# Altium schematic symbol library Connectors.SchLib: 71 symbols
Pins are listed as number, name and electrical type; pins without a type are passive.

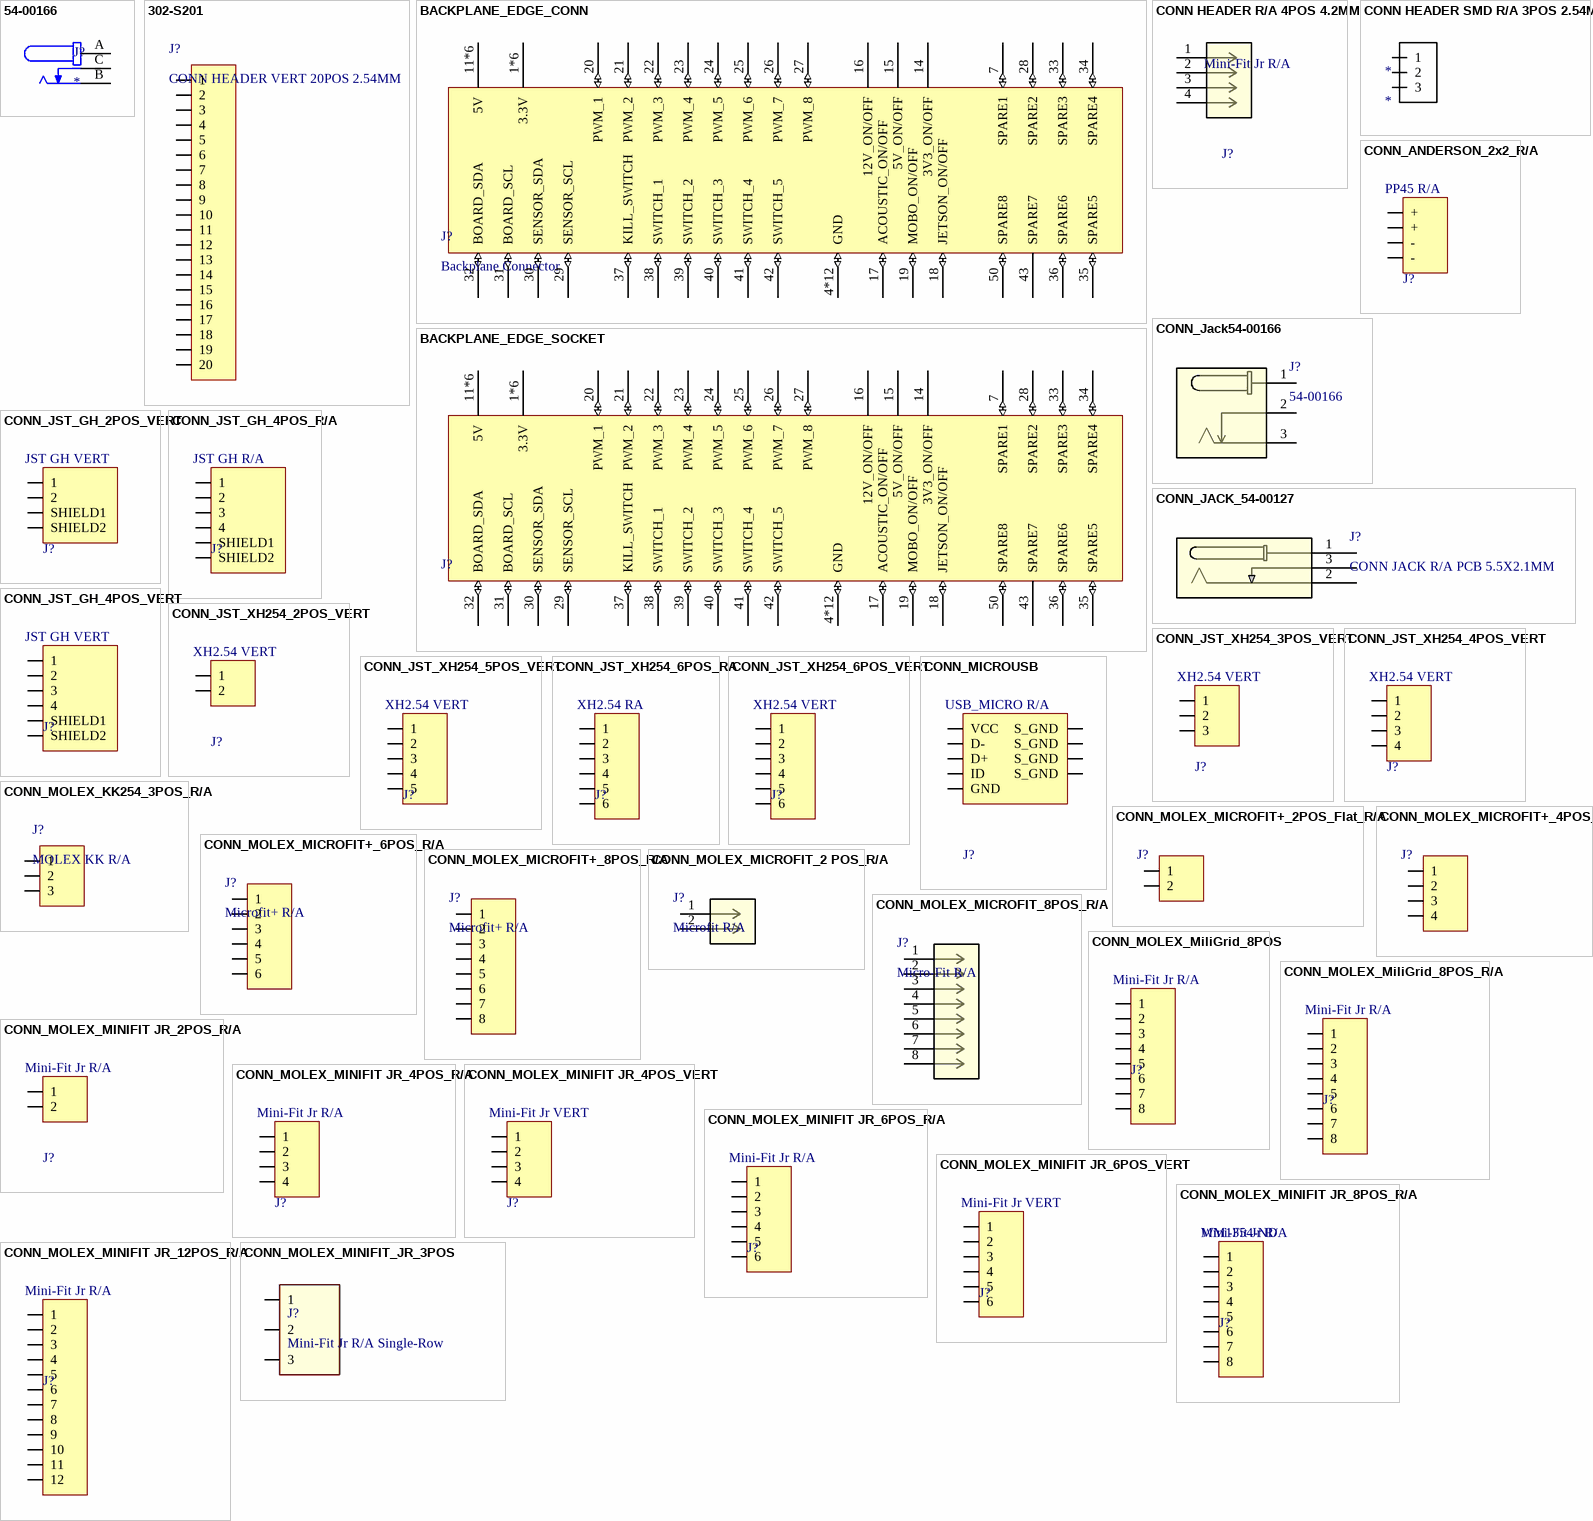
[diagram p0: symbols 54-00166 to CONN_MOLEX_MINIFIT_JR_3POS]

## 54-00166
designator J?
Connector, dc jack 5.5x2.1 mm, PCB mount, 90 degrees, nickel plated, PBT, thru hole; MF: Tensility International Corp; MP: 54-00166; Package: None; Price: None; Check_prices: https://www.snapeda.com/parts/54-00166/Tensility+International+Corp/view-part/?ref=eda; Value: *; SnapEDA_Link: https://www.snapeda.com/parts/54-00166/Tensility+International+Corp/view-part/?ref=snap; Availability: In Stock; Purchase-URL: https://pricing.snapeda.com/search?q=54-00166&ref=eda; Supplier 1: Digi-Key; Supplier Part Number 1: 839-54-00166-ND
footprint TENSILITY_54-00166
pins: A, B, C

## 302-S201
designator J?, comment CONN HEADER VERT 20POS 2.54MM
Supplier 1: Digikey; Supplier Part Number 1: ED10524-ND
footprint STM32_Connector
pins: 1, 2, 3, 4, 5, 6, 7, 8, 9, 10, 11, 12, 13, 14, 15, 16, 17, 18, 19, 20

## BACKPLANE_EDGE_CONN
designator J?, comment Backplane Connector  (no BOM)
Backplane Edge Connector
footprint BACKPLANE_EDGE_CONN; pin to pad 1*6>1+2+3+54+55+56 4*12>4+5+6+8+9+10+47+48+49+51+52+53 11*6>11+12+13+44+45+46
footprint HEADER_2X28PIN_2.54MM; pin to pad 1*6>1+2+3+54+55+56 4*12>4+5+6+8+9+10+47+48+49+51+52+53 11*6>11+12+13+44+45+46
pins: 1*6 3.3V (power), 4*12 GND (io), 7 SPARE1 (io), 11*6 5V (power), 14 3V3_ON/OFF (power), 15 5V_ON/OFF (power), 16 12V_ON/OFF (power), 17 ACOUSTIC_ON/OFF (io), 18 JETSON_ON/OFF (io), 19 MOBO_ON/OFF (io), 20 PWM_1 (io), 21 PWM_2 (io), 22 PWM_3 (io), 23 PWM_4 (io), 24 PWM_5 (io), 25 PWM_6 (io), 26 PWM_7 (io), 27 PWM_8 (io), 28 SPARE2 (io), 29 SENSOR_SCL (io), 30 SENSOR_SDA (io), 31 BOARD_SCL (io), 32 BOARD_SDA (io), 33 SPARE3 (io), 34 SPARE4 (io), 35 SPARE5 (io), 36 SPARE6 (io), 37 KILL_SWITCH (io), 38 SWITCH_1 (io), 39 SWITCH_2 (io), 40 SWITCH_3 (io), 41 SWITCH_4 (io), 42 SWITCH_5 (io), 43 SPARE7 (power) "+3V3", 50 SPARE8 (io)

## BACKPLANE_EDGE_SOCKET
designator J?  (value not drawn)
Backplane Edge Socket; Made By: Robert Pafford; Supplier 1: Digi-Key; Supplier Part Number 1: A31719-ND
footprint SOCKET_BACKPLANE_EDGE_CONN; pin to pad 1*6>1+2+3+54+55+56 4*12>4+5+6+8+9+10+47+48+49+51+52+53 11*6>11+12+13+44+45+46
pins: 1*6 3.3V (power), 4*12 GND (io), 7 SPARE1 (io), 11*6 5V (power), 14 3V3_ON/OFF (power), 15 5V_ON/OFF (power), 16 12V_ON/OFF (power), 17 ACOUSTIC_ON/OFF (io), 18 JETSON_ON/OFF (io), 19 MOBO_ON/OFF (io), 20 PWM_1 (io), 21 PWM_2 (io), 22 PWM_3 (io), 23 PWM_4 (io), 24 PWM_5 (io), 25 PWM_6 (io), 26 PWM_7 (io), 27 PWM_8 (io), 28 SPARE2 (io), 29 SENSOR_SCL (io), 30 SENSOR_SDA (io), 31 BOARD_SCL (io), 32 BOARD_SDA (io), 33 SPARE3 (io), 34 SPARE4 (io), 35 SPARE5 (io), 36 SPARE6 (io), 37 KILL_SWITCH (io), 38 SWITCH_1 (io), 39 SWITCH_2 (io), 40 SWITCH_3 (io), 41 SWITCH_4 (io), 42 SWITCH_5 (io), 43 SPARE7 (power) "+3V3", 50 SPARE8 (io)

## CONN HEADER R/A 4POS 4.2MM
designator J?, comment Mini-Fit Jr R/A
Connector Header Through Hole, Right Angle 4 position 0.165" (4.20mm); Manufacturer: Molex; Pitch: 4.2mm; Max. Current Per Pin: 100mA; Number of Positions: 4; Configuration: Right Angle; Color: Natural; Created By: Zach Ramsey; Series: Minifit Jr 5569; Supplier 1: Digi-Key; Supplier Part Number 1: WM23323-ND; ComponentLink2Description: Datasheet; ComponentLink2URL: https://tools.molex.com/pdm_docs/ps/PS-5556-001.pdf
footprint CONN HEADER R/A 4POS 4.2MM
pins: 1, 2, 3, 4

## CONN HEADER SMD R/A 3POS 2.54MM
designator *
Connector Header Surface Mount, Right Angle 3 position 0.100" (2.54mm); Circuits: 3; Created By: Ethan Rosati; Reviewed By: *
footprint 0015912035
pins: 1, 2, 3

## CONN_ANDERSON_2x2_R/A
designator J?, comment PP45 R/A
Anderson PP45 / 4 Pos R/A Red/Black; Pitch: 7.9mm; Configuration: Right Angle; Current Per Pin: 45A; Number of Positions: 4; Manufacturer: Anderson; Color: Red/Black; Created By: Flip B; ComponentLink1Description: Datasheet; ComponentLink1URL: https://www.andersonpower.com/content/dam/app/ecommerce/product-pdfs/DS-PP1545.pdf; Series: PowerPole 45; Supplier 1: Digi-Key; Supplier Part Number 1: 2243-1337G1-ND; Supplier 2: Digi-Key; Supplier Part Number 2: 2243-1336G1-ND; Supplier 3: Digi-Key; Supplier Part Number 3: 2243-1327-BK-ND; Supplier 4: Digi-Key; Supplier Part Number 4: A102007-ND
footprint CONN_ANDERSON_PP45_4 POS_R/A (Anderson Powerpole45 2x2 Red/Black)
pins: 1 +, 2 +, 3 -, 4 -

## CONN_Jack54-00166
designator J?, comment 54-00166
Power Barrel Connector Jack 2.10mm ID (0.083"), 5.50mm OD (0.217") Through Hole, Right AngleNo Description Available; Mfr_Name: Tensility; Type: DEV; Copyright: Copyright (C) 2024 Ultra Librarian. All rights reserved.; Manufacturer_Part_Number: 54-00166; RefDes: RefDes
footprint CONN3_54-00166_TEN
pins: 1, 2, 3

## CONN_JACK_54-00127
designator J?, comment CONN JACK R/A PCB 5.5X2.1MM
Power Barrel Connector Jack 2.10mm ID (0.083"), 5.50mm OD (0.217") Through Hole, Right Angle; Mfr_Name: Tensility; Manufacturer_Part_Number: 54-00127; Copyright: Copyright (C) 2023 Ultra Librarian. All rights reserved.; RefDes: RefDes; Type: DEV; Supplier 1: Arrow Electronics; Supplier Part Number 1: 54-00127
footprint CONN_JACK (54-00127)
pins: 1, 2, 3

## CONN_JST_GH_2POS_VERT
designator J?, comment JST GH VERT
JST GH Pitch 2 Pos Vertical; Pitch: 1.25mm; Current Per Pin: 1A; Number of Positions: 4; Manufacturer: JST; Configuration: Vertical; Color: Natural; Created By: Robert P; Series: GH; Supplier 1: Digi-Key; Supplier Part Number 1: 455-1564-1-ND
footprint CONN_JST_SM02B-GHS-TB(LF)(SN) (JST GH Pitch 2 Pos R/A)
pins: 1, 2, S1 SHIELD1, S2 SHIELD2

## CONN_JST_GH_4POS_R/A
designator J?, comment JST GH R/A
JST GH Pitch 4 Pos R/A; Pitch: 1.25mm; Configuration: Right Angle; Current Per Pin: 1A; Number of Positions: 4; Manufacturer: JST; Color: Natural; Created By: Robert P; Series: GH; Supplier 1: Future Electronics; Supplier Part Number 1: 1593540
footprint CONN_JST_SM04B-GHS-TB(LF)(SN)- (JST GH Pitch 4 Pos R/A)
pins: 1, 2, 3, 4, S1 SHIELD1, S2 SHIELD2

## CONN_JST_GH_4POS_VERT
designator J?, comment JST GH VERT
JST GH Pitch 4 Pos Vertical; Pitch: 1.25mm; Current Per Pin: 1A; Number of Positions: 4; Manufacturer: JST; Configuration: Vertical; Color: Natural; Created By: Robert P; Series: GH; Supplier 1: Digi-Key; Supplier Part Number 1: 455-1580-1-ND
footprint CONN_JST_BM04B-GHS-TBT(LF)(SN)(N)
pins: 1, 2, 3, 4, S1 SHIELD1, S2 SHIELD2

## CONN_JST_XH254_2POS_VERT
designator J?, comment XH2.54 VERT
JST XH 2.54mm Pitch 2 Pos Vertical; Current Per Pin: 4A; Number of Positions: 2; NOTE: Do not use JST 2.5mm parts with this footprint. JST does not make 2.54mm pitch pins, rather only clones make this connector!; Manufacturer: JST; Pitch: 2.54mm; Configuration: Vertical; Color: White; Created By: Robert P; Series: XH 2.54; ComponentLink1Description: Purchase Link; ComponentLink1URL: https://www.amazon.com/460PCS-XH2-54-Connector-Terminal-Connectors/dp/B09DBGVX5C
footprint CONN_JST_XH254_2POS_VERT (JST XH 2.54mm Pitch 2 Pos Vertical)
pins: 1, 2

## CONN_JST_XH254_3POS_VERT
designator J?, comment XH2.54 VERT
JST XH 2.54mm Pitch 3 Pos Vertical; Current Per Pin: 4A; Number of Positions: 3; NOTE: Do not use JST 2.5mm parts with this footprint. JST does not make 2.54mm pitch pins, rather only clones make this connector!; Manufacturer: JST; Pitch: 2.54mm; Configuration: Vertical; Color: White; Created By: Robert P; Series: XH 2.54; ComponentLink1Description: Purchase Link; ComponentLink1URL: https://www.amazon.com/460PCS-XH2-54-Connector-Terminal-Connectors/dp/B09DBGVX5C
footprint CONN_JST_XH254_3POS_VERT (JST XH 2.54mm Pitch 3 Pos Vertical)
pins: 1, 2, 3

## CONN_JST_XH254_4POS_VERT
designator J?, comment XH2.54 VERT
JST XH 2.54mm Pitch 4 Pos Vertical; Current Per Pin: 4A; Number of Positions: 4; NOTE: Do not use JST 2.5mm parts with this footprint. JST does not make 2.54mm pitch pins, rather only clones make this connector!; Manufacturer: JST; Pitch: 2.54mm; Configuration: Vertical; Color: White; Created By: Robert P; Series: XH 2.54; ComponentLink1Description: Purchase Link; ComponentLink1URL: https://www.amazon.com/460PCS-XH2-54-Connector-Terminal-Connectors/dp/B09DBGVX5C
footprint CONN_JST_XH254_4POS_VERT (JST XH 2.54mm Pitch 4 Pos Vertical)
pins: 1, 2, 3, 4

## CONN_JST_XH254_5POS_VERT
designator J?, comment XH2.54 VERT
JST XH 2.54mm Pitch 5 Pos Vertical; Current Per Pin: 4A; Number of Positions: 5; NOTE: Do not use JST 2.5mm parts with this footprint. JST does not make 2.54mm pitch pins, rather only clones make this connector!; Manufacturer: JST; Pitch: 2.54mm; Configuration: Vertical; Color: White; Created By: Robert P; Series: XH 2.54; ComponentLink1Description: Purchase Link; ComponentLink1URL: https://www.amazon.com/460PCS-XH2-54-Connector-Terminal-Connectors/dp/B09DBGVX5C
footprint CONN_JST_XH254_5POS_VERT (JST XH 2.54mm Pitch 5 Pos Vertical)
pins: 1, 2, 3, 4, 5

## CONN_JST_XH254_6POS_RA
designator J?, comment XH2.54 RA
JST XH 2.54mm Pitch 6 Pos Right Angle; Current Per Pin: 4A; Number of Positions: 6; NOTE: Do not use JST 2.5mm parts with this footprint. JST does not make 2.54mm pitch pins, rather only clones make this connector!; Manufacturer: JST; Pitch: 2.54mm; Configuration: Right Angle; Color: White; Created By: Flip B; Series: XH 2.54; Supplier 1: Digi-Key; Supplier Part Number 1: 455-2264-1-ND
footprint CONN_JST_XH254_6POS_RA (JST XH 2.54mm Pitch 6 Pos Right Angle)
pins: 1, 2, 3, 4, 5, 6

## CONN_JST_XH254_6POS_VERT
designator J?, comment XH2.54 VERT
JST XH 2.54mm Pitch 6 Pos Vertical; Current Per Pin: 4A; Number of Positions: 6; NOTE: Do not use JST 2.5mm parts with this footprint. JST does not make 2.54mm pitch pins, rather only clones make this connector!; Manufacturer: JST; Pitch: 2.54mm; Configuration: Vertical; Color: White; Created By: Flip B; Series: XH 2.54; Supplier 1: Digi-Key; Supplier Part Number 1: 455-2264-1-ND
footprint CONN_JST_XH254_6POS_VERT (JST XH 2.54mm Pitch 6 Pos Vertical)
pins: 1, 2, 3, 4, 5, 6

## CONN_MICROUSB
designator J?, comment USB_MICRO R/A
Amphenol Micro USB-B / USB2.0 5 Pin Right Angle SMD; Pitch: 0.65mm; Current Per Pin: 1.8A; Number of Positions: 5; Manufacturer: Amphenol; Configuration: Right Angle; Color: Silver; Created By: Flip B; ComponentLink1Description: Datasheet; ComponentLink1URL: https://cdn.amphenol-icc.com/media/wysiwyg/files/documentation/datasheet/inputoutput/io_usb_micro.pdf?__cf_chl_jschl_tk__=05693735e19256298f6ef6ca2bb2e65c376a4f56-1625503833-0-Abitsb0-ufjOXJYs_S3J3r2iTn-nObalbmXUksF1VvO_h_WEmRdMlUD1I8-hmWSEVWzY1pirKnrPZWfgY3851qyBZe5ZvnNQePLGIzUgdEIQBVUyW36RsbYpDLEWxJ4horD-5gChFgobLYqwmG5aHl0E8lIn_twwPPrOxilK2gP0q9t_CNOs_u5fMqXvXUrlsOv8tIE2NRlu6NVP8qtkL2GjhlkeTUbDMF8WvvpPDTFOgvZ4Y16Ej8F8AhWos88mo5B1HssXozw0XrkJQIqERITUu6rqloz9kf4ZzhBHtDAt-IkiAFY_Ds9SW8FYKKTtINJVpHZQ6Gyu1FFM4Dc9MO0maE8_mmNcwlxqyRoRk_MPWW8VyByXWM5RSp52jteRKw7FeI9WIYvCbPAOy0Eyib-aseIQsnGbglBcUY6_2xp8GYaJM38H3dNvBPsSOfJBPndKedwKHllxjkucXn6xsN0sDXkpGN-cu8_2bDTJ0g-uUucKSCooYX-ApSDNGpkA_p9zv1SOAD8c0zaZVmtiBsN75QpVz2rzq9_BFxOywPvR; Series: 10118192; Supplier 1: Digi-Key; Supplier Part Number 1: 609-4613-1-ND
footprint CONN_MINIUSB (USB2.0 Micro-B Receptacle SMD R/A)
pins: 1 VCC, 2 D-, 3 D+, 4 ID, 5 GND, 6 S_GND, 7 S_GND, 8 S_GND, 9 S_GND

## CONN_MOLEX_KK254_3POS_R/A
designator J?, comment MOLEX KK R/A
Molex KK 254 Wire-to-Board Header, Right-Angle, w/ Friction Lock, 3 Circuit; Made By: Robert Pafford; Max Current Per Pin: 4A; Supplier 1: Digi-Key; Supplier Part Number 1: WM2785-ND; Series: Molex KK254, 7395
footprint 0022057038 (Molex KK 254 Wire-to-Board Header, Right-Angle, w/ Friction Lock, 3 Circuit)
pins: 1, 2, 3

## CONN_MOLEX_MICROFIT+_2POS_Flat_R/A
designator J?, comment Microfit+ R/A  (value not drawn)
Molex Microfit+ / 2157601002 2POS Right Angle; Pitch: 3.0mm; Current Per Pin: 12.5A; Manufacturer: Molex; Configuration: R/A; Color: Black; Supplier 1: DigiKey; Supplier Part Number 1: 900-2157601002-ND
footprint CONN_MOLEX_MICROFIT+_2Flat_POS_R/A (CONN HEADER R/A 2POS 3MM)
pins: 1, 2

## CONN_MOLEX_MICROFIT+_4POS_R/A
designator J?, comment Microfit+ R/A  (value not drawn)
Molex Microfit+ / 212528 4 POS R/A Black; Pitch: 3.0mm; Current Per Pin: 12.5A; Manufacturer: Molex; Supplier 1: Digikey; Supplier Part Number 1: 900-2125280400-ND; Configuration: R/A; Color: Black
footprint CONN_MOLEX_MICROFIT+_4_POS_R/A - duplicate (CONN HEADER R/A 4POS 3MM)
pins: 1, 2, 3, 4

## CONN_MOLEX_MICROFIT+_6POS_R/A
designator J?, comment Microfit+ R/A
Molex Microfit+ / 212528 6 POS R/A Black; Pitch: 3.0mm; Current Per Pin: 12.5; Supplier 1: Digikey; Supplier Part Number 1: 900-2125280600-ND; Manufacturer: Molex; Configuration: R/A; Color: Black
footprint CONN_MOLEX_MICROFIT+_6_POS_R/A (CONN HEADER R/A 6POS 3MM)
pins: 1, 2, 3, 4, 5, 6

## CONN_MOLEX_MICROFIT+_8POS_R/A
designator J?, comment Microfit+ R/A
Molex Microfit+ / 212528 8 POS R/A Black; Current Rating: 12.5A; Pitch: 3.0mm; Supplier 1: Digikey; Supplier Part Number 1: 900-2125280800-ND; Manufacturer: Molex; Configuration: R/A; Color: Black
footprint CONN_MOLEX_MICROFIT+_8POS_R/A (MICROFIT+ 212528)
pins: 1, 2, 3, 4, 5, 6, 7, 8

## CONN_MOLEX_MICROFIT_2 POS_R/A
designator J?, comment Microfit R/A
CONN HEADER R/A 2POS; Manufacturer: Molex; Pitch: 3mm; Current Rating: 8A; Supplier 1: Digikey; Supplier Part Number 1: WM1813-ND; Configuration: R/A; Color: Black
footprint CONN_MOLEX_MICROFIT_2 POS_R/A (0430450200)
pins: 1, 2

## CONN_MOLEX_MICROFIT_8POS_R/A
designator J?, comment Micro-Fit R/A
CONN HEADER R/A 8POS 3MM; Manufacturer: Molex; Pitch: 3.0mm; Current Rating: 8A; Supplier 1: Digikey; Supplier Part Number 1: WM2675-ND; Color: Black
footprint CONN_MOLEX_MICROFIT_8_POS_R/A (CONN HEADER R/A 8POS 3MM)
pins: 1, 2, 3, 4, 5, 6, 7, 8

## CONN_MOLEX_MiliGrid_8POS
designator J?, comment Mini-Fit Jr R/A
Molex Mili-Grid 2.00mm pitch 8 Pos Vertical; Current Per Pin: 1A; Number of Positions: 8; Manufacturer: Molex; Pitch: 2.00mm; Configuration: Vertical; Color: Black; Created By: Flip B; ComponentLink1Description: Datasheet; ComponentLink1URL: https://www.molex.com/pdm_docs/sd/791077003_sd.pdf; Series: Mili-Grid; Supplier 1: Digi-Key; Supplier Part Number 1: WM18675-ND
footprint Molex_Mili-Grid_2x4PIN_2.00MM_VERT (Molex Mili-Grid 2.00mm 2x4 Vert)
pins: 1, 2, 3, 4, 5, 6, 7, 8

## CONN_MOLEX_MiliGrid_8POS_R/A
designator J?, comment Mini-Fit Jr R/A
Molex Mili-Grid 2.00mm pitch 8 Pos Right Angle; Current Per Pin: 1A; Number of Positions: 8; Manufacturer: Molex; Pitch: 2.00mm; Configuration: Right Angle; Color: Black; Created By: Flip B; ComponentLink1Description: Datasheet; ComponentLink1URL: https://www.molex.com/pdm_docs/sd/878330821_sd.pdf; Series: Mili-Grid; Supplier 1: Digi-Key; Supplier Part Number 1: WM23634-ND
footprint Molex_Mili-Grid_2x4PIN_2.00MM_RA (Molex Mili-Grid 2.00mm 2x4 RA)
pins: 1, 2, 3, 4, 5, 6, 7, 8

## CONN_MOLEX_MINIFIT JR_2POS_R/A
designator J?, comment Mini-Fit Jr R/A
Molex Minifit Jr. 5569 / 2 Pos R/A Natural; Pitch: 4.2mm; Configuration: Right Angle; Current Per Pin: 13A; Number of Positions: 2; Manufacturer: Molex; Color: Natural; Created By: Robert P; ComponentLink1Description: Datasheet; ComponentLink1URL: https://www.molex.com/pdm_docs/sd/026013115_sd.pdf; Series: Minifit Jr 5569; Supplier 1: Digi-Key; Supplier Part Number 1: WM1351-ND
footprint CONN_MOLEX_MINIFIT JR_2 POS_R/A (Molex Minifit Jr 5569 2 Pos R/A)
pins: 1, 2

## CONN_MOLEX_MINIFIT JR_4POS_R/A
designator J?, comment Mini-Fit Jr R/A
Molex Minifit Jr. 5569 / 4 Pos R/A Natural; Pitch: 4.2mm; Configuration: Right Angle; Current Per Pin: 13A; Number of Positions: 4; Supplier Part Number 1: WM13112-ND; Supplier 1: Digi-Key; Manufacturer: Molex; Color: Natural; Created By: Flip B; ComponentLink1Description: Datasheet; ComponentLink1URL: https://www.molex.com/pdm_docs/sd/026013115_sd.pdf; Series: Minifit Jr 5569
footprint CONN_MOLEX_MINIFIT JR_4 POS_R/A (Molex Minifit Jr 5569 4 Pos R/A)
pins: 1, 2, 3, 4

## CONN_MOLEX_MINIFIT JR_4POS_VERT
designator J?, comment Mini-Fit Jr VERT
Molex Minifit Jr. 5566 / 4 Pos Vertical Natural; Pitch: 4.2mm; Current Per Pin: 13A; Number of Positions: 4; Manufacturer: Molex; Configuration: Vertical; Color: Natural; Created By: Robert P; Series: Minifit Jr 5566; Supplier 1: Digi-Key; Supplier Part Number 1: WM3801-ND
footprint CONN_MOLEX_MINIFIT JR_4 POS_VERT (Molex Minifit Jr 5566 4 Pos Vertical)
pins: 1, 2, 3, 4

## CONN_MOLEX_MINIFIT JR_6POS_R/A
designator J?, comment Mini-Fit Jr R/A
Molex Minifit Jr. 5569 / 6 Pos R/A Natural; Pitch: 4.2mm; Configuration: Right Angle; Current Per Pin: 13A; Number of Positions: 8; Manufacturer: Molex; Color: Natural; Created By: Flip B; ComponentLink1Description: Datasheet; ComponentLink1URL: https://www.molex.com/pdm_docs/ps/PS-5556-001.pdf; Series: Minifit Jr 5569; Supplier 1: Digi-Key; Supplier Part Number 1: WM1353-ND
footprint CONN_MOLEX_MINIFIT JR_6 POS_R/A (Molex Minifit Jr 5569 6 Pos R/A)
pins: 1, 2, 3, 4, 5, 6

## CONN_MOLEX_MINIFIT JR_6POS_VERT
designator J?, comment Mini-Fit Jr VERT
Molex Minifit Jr. 5566 / 6 Pos VERT Natural; Pitch: 4.2mm; Configuration: Vertical; Current Per Pin: 13A; Number of Positions: 8; Manufacturer: Molex; Color: Natural; Created By: Flip B; ComponentLink1Description: Datasheet; ComponentLink1URL: https://www.molex.com/pdm_docs/sd/039290063_sd.pdf; Series: Minifit Jr 5569; Supplier 1: Digi-Key; Supplier Part Number 1: WM3822-ND
footprint CONN_MOLEX_MINIFIT JR_6 POS_VERT (Molex Minifit Jr 5566 6 Pos VERT)
pins: 1, 2, 3, 4, 5, 6

## CONN_MOLEX_MINIFIT JR_8POS_R/A
designator J?, comment Mini-Fit Jr R/A  Supplier Part Number 1: WM1354-ND
Molex Minifit Jr. 5569 / 8 Pos R/A Natural; Pitch: 4.2mm; Configuration: Right Angle; Current Per Pin: 13A; Number of Positions: 8; Manufacturer: Molex; Color: Natural; Created By: Flip B; ComponentLink1Description: Datasheet; ComponentLink1URL: https://www.molex.com/pdm_docs/ps/PS-5556-001.pdf; Series: Minifit Jr 5569; Supplier 1: Digi-Key
footprint CONN_MOLEX_MINIFIT JR_8 POS_R/A (Molex Minifit Jr 5569 8 Pos R/A)
pins: 1, 2, 3, 4, 5, 6, 7, 8

## CONN_MOLEX_MINIFIT JR_12POS_R/A
designator J?, comment Mini-Fit Jr R/A
Molex Minifit Jr. 5569 / 12 Pos R/A Natural; Pitch: 4.2mm; Configuration: Right Angle; Current Per Pin: 13A; Number of Positions: 12; Manufacturer: Molex; Color: Natural; Created By: Flip B; ComponentLink1Description: Datasheet; ComponentLink1URL: https://www.molex.com/pdm_docs/ps/PS-5556-001.pdf; Series: Minifit Jr 5569; Supplier 1: Digi-Key; Supplier Part Number 1: WM21356-ND
footprint CONN_MOLEX_MINIFIT JR_12 POS_R/A (Molex Minifit Jr 5569 12 Pos R/A)
pins: 1, 2, 3, 4, 5, 6, 7, 8, 9, 10, 11, 12

## CONN_MOLEX_MINIFIT_JR_3POS
designator J?, comment Mini-Fit Jr R/A Single-Row
Connector Header Through Hole, Right Angle 3 position 0.165" (4.20mm)
footprint HEADER_3PIN_4.2MM (CONN HEADER R/A 3POS 4.2MM)
pins: 1, 2, 3

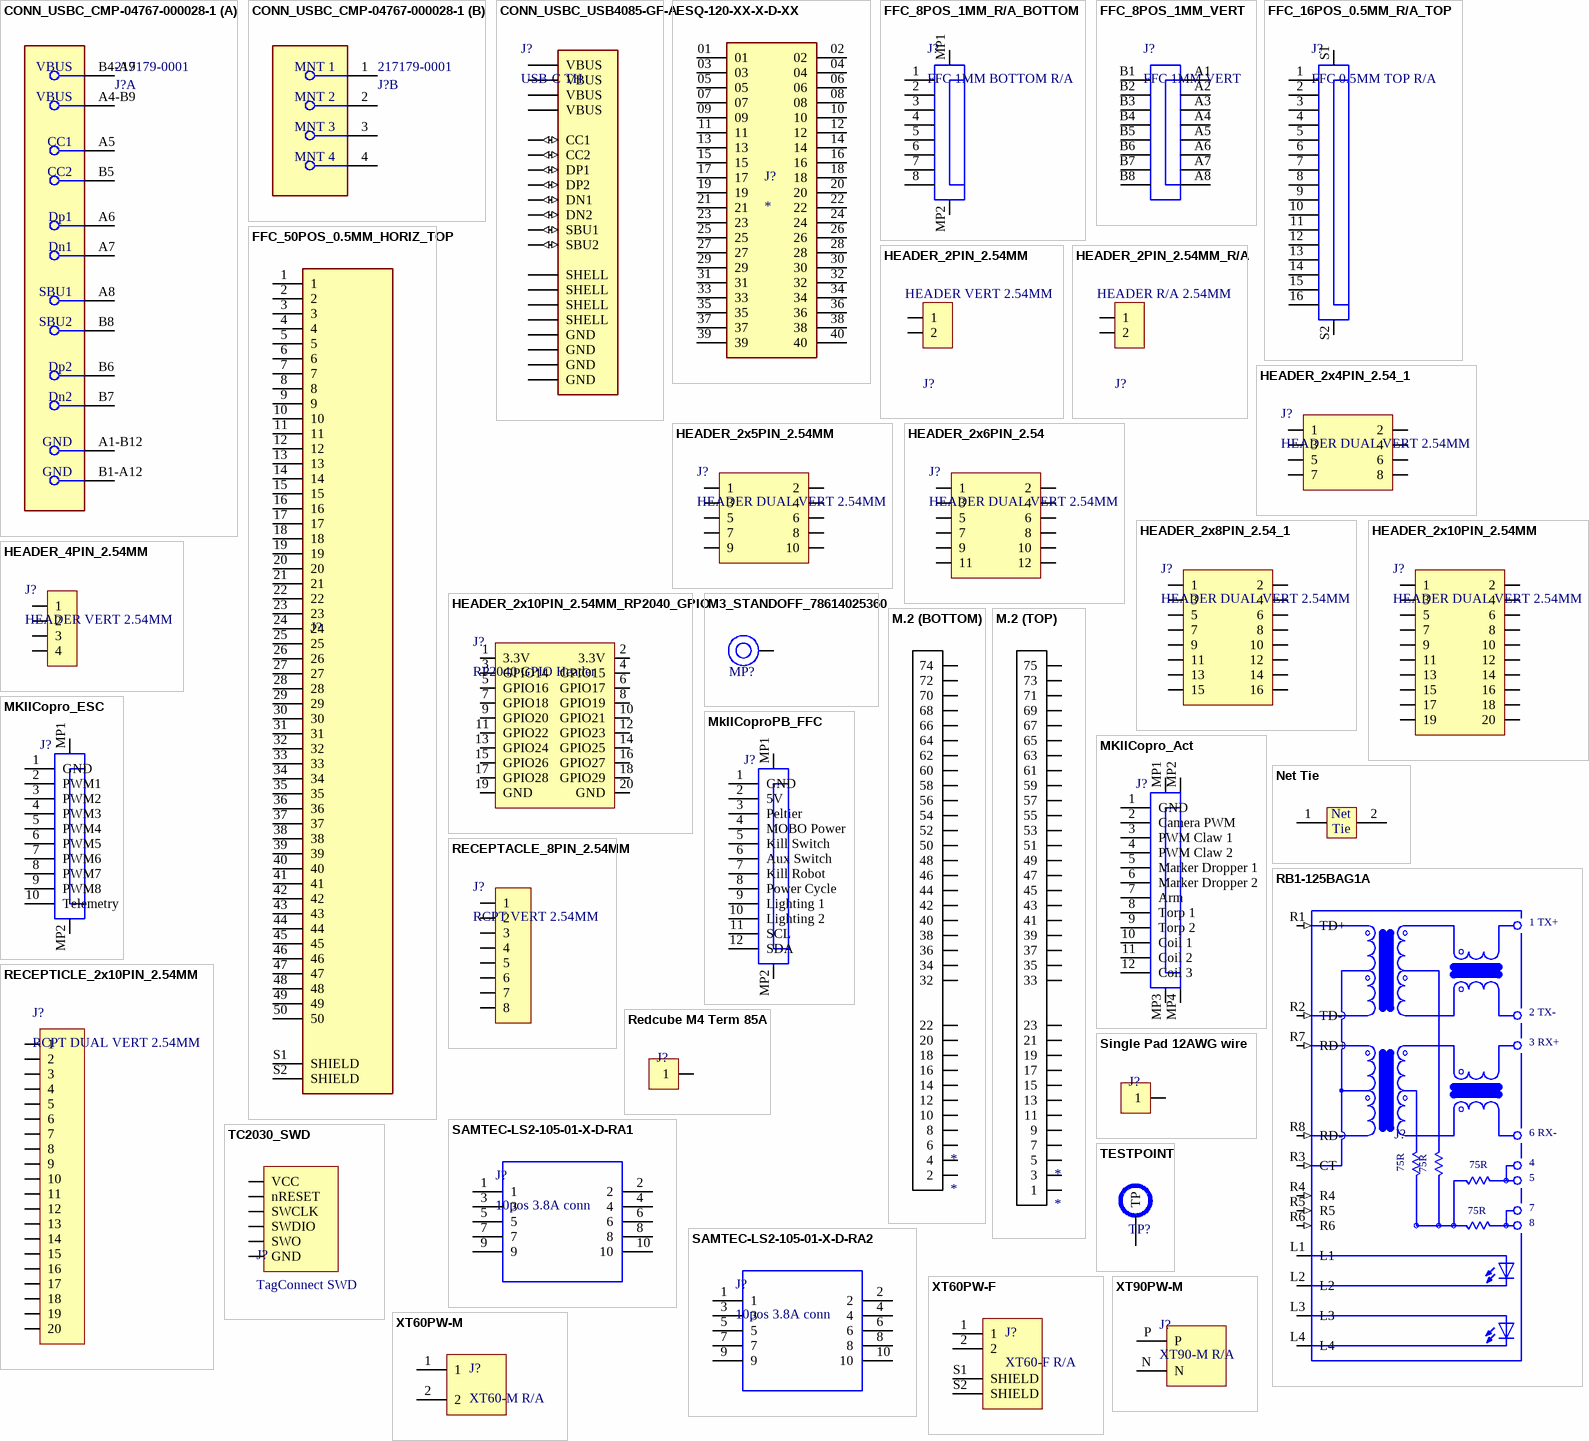
[diagram p1: symbols CONN_USBC_CMP-04767-000028-1 to XT90PW-M]

## CONN_USBC_CMP-04767-000028-1
designator J?, comment 217179-0001
CONN RCP USB2.0 TYP C 24P SMD RA; Created by: James Mills
footprint CONN_USBC_FP-217179-0001-MFG (USB-C (USB TYPE-C) USB 2.0 Receptacle Connector 24 (16+8 Dummy) Position Surface Mount, Right Angle; Through Hole)
part A pins: A1-B12 GND (power), A4-B9 VBUS (power), A5 CC1, A6 Dp1, A7 Dn1, A8 SBU1, B1-A12 GND (power), B4-A9 VBUS (power), B5 CC2, B6 Dp2, B7 Dn2, B8 SBU2
part B pins: 1 MNT 1, 2 MNT 2, 3 MNT 3, 4 MNT 4

## CONN_USBC_USB4085-GF-A
designator J?, comment USB-C TH
USB-C (USB TYPE-C) USB 2.0 Receptacle Connector 24 (16+8 Dummy) Position Through Hole, Right Angle; Supplier 1: DigiKey; Supplier Part Number 1: 2073-USB4085-GF-ADKR-ND; Created By: John Ulm; Type: Through Hole; Interface: USB-C
footprint USB-C TH
pins: A1 GND (power), A4 VBUS (power), A5 CC1 (io), A6 DP1 (io), A7 DN1 (io), A8 SBU1 (io), A9 VBUS (power), A12 GND (power), B1 GND (power), B4 VBUS (power), B5 CC2 (io), B6 DP2 (io), B7 DN2 (io), B8 SBU2 (io), B9 VBUS (power), B12 GND (power), S1 SHELL, S2 SHELL, S3 SHELL, S4 SHELL

## ESQ-120-XX-X-D-XX
designator J?
ESQ - Samtec 2.54mm Elevated Dual Row Socket Strip 7.36mm Contact. 11.05mm Profile (13); MP: ESQ-120-13-L-D; Price: None; Purchase-URL: https://pricing.snapeda.com/search/part/ESQ-120-13-L-D/?ref=eda; Package: None; Check_prices: https://www.snapeda.com/parts/ESQ-120-13-L-D/Samtec+Inc./view-part/?ref=eda; Value: *; Availability: In Stock; MF: Samtec; SnapEDA_Link: https://www.snapeda.com/parts/ESQ-120-13-L-D/Samtec+Inc./view-part/?ref=snap
footprint SAMTEC_ESQ-120-XX-X-D-XX
pins: 01, 02, 03, 04, 05, 06, 07, 08, 09, 10, 11, 12, 13, 14, 15, 16, 17, 18, 19, 20, 21, 22, 23, 24, 25, 26, 27, 28, 29, 30, 31, 32, 33, 34, 35, 36, 37, 38, 39, 40

## FFC_8POS_1MM_R/A_BOTTOM
designator J?, comment FFC 1MM BOTTOM R/A
8 Position FPC Connector Contacts, Bottom 0.039" (1.00mm) Surface Mount, Right Angle, Gold Contacts; Made By: Robert Pafford; Max Current: 1A; FFC Type: ZIF Locking; Orientation: Bottom R/A; Pin Count: 8; Contact Plating: Gold; Supplier 1: Digi-Key; Supplier Part Number 1: WM7939CT-ND
footprint FFC_0522710869 (Molex FFC 8 Bottom 1.00MM R/A)
pins: 1, 2, 3, 4, 5, 6, 7, 8, MP1, MP2

## FFC_8POS_1MM_VERT
designator J?, comment FFC 1MM VERT
8 Position FPC Connector Contacts, Vertical - 1 Sided 0.039" (1.00mm) Surface Mount; Made By: Robert Pafford; Max Current: 1A; FFC Type: ZIF Locking; Orientation: Vertical; Pin Count: 8; Contact Plating: Gold; Supplier 1: Digi-Key; Supplier Part Number 1: WM6761CT-ND
footprint FFC_0526100872 (Molex FFC VERT 8POS 1.00MM SMD)
pins: A1 1, A2 2, A3 3, A4 4, A5 5, A6 6, A7 7, A8 8, B1 1, B2 2, B3 3, B4 4, B5 5, B6 6, B7 7, B8 8

## FFC_16POS_0.5MM_R/A_TOP
designator J?, comment FFC 0.5MM TOP R/A
16 Position FPC Connector Contacts, Top 0.02" (0.5mm) Surface Mount, Right Angle, Gold Contacts; Made By: Robert Pafford; Max Current: 0.5A; FFC Type: ZIF Locking; Orientation: Top R/A; Pin Count: 16; Contact Plating: Gold; Supplier 1: Digi-Key; Supplier Part Number 1: HFK116CT-ND
footprint FH12A-16S-0.5SH(55)
pins: 1, 2, 3, 4, 5, 6, 7, 8, 9, 10, 11, 12, 13, 14, 15, 16, S1, S2

## FFC_50POS_0.5MM_HORIZ_TOP
designator J?
50 pins 0.5 Pitch SMD Horizontal Type Top Contact; Made By: Andrew Lin; FFC Type: ZIF Locking; Max Current: ?; Orientation: Horizontal Top; Pin Count: 50; Contact Plating: Phosphor Bronze, Tin/Lead Plated; Supplier 1: Digi-Key; Supplier Part Number 1: HFK116CT-ND
footprint EASTRISING_ER-CON50HT-1
pins: 1, 2, 3, 4, 5, 6, 7, 8, 9, 10, 11, 12, 13, 14, 15, 16, 17, 18, 19, 20, 21, 22, 23, 24, 25, 26, 27, 28, 29, 30, 31, 32, 33, 34, 35, 36, 37, 38, 39, 40, 41, 42, 43, 44, 45, 46, 47, 48, 49, 50, S1 SHIELD, S2 SHIELD

## HEADER_2PIN_2.54MM
designator J?, comment HEADER VERT 2.54MM
CONN HEADER VERT 2POS 2.54MM; Configuration: Vertical; Current Per Pin: 1A; Number of Positions: 2; Manufacturer: *; Pitch: 2.54mm; Color: Natural; Created By: Robert P; ComponentLink1Description: Datasheet; ComponentLink1URL: https://www.molex.com/pdm_docs/sd/026013115_sd.pdf; Series: *; Supplier 1: Digi-Key; Supplier Part Number 1: A121480-ND; Supplier 2: Mouser; Supplier Part Number 2: 571-5-146280-2
footprint HEADER_2PIN_2.54MM
pins: 1, 2

## HEADER_2PIN_2.54MM_R/A
designator J?, comment HEADER R/A 2.54MM
CONN HEADER R/A 2POS 2.54MM; Plating: Gold; Current Per Pin: 3A; Number of Positions: 2; Manufacturer: *; Pitch: 2.54mm; Configuration: R/A; Created By: Robert P; Series: *; Supplier 1: Digi-Key; Supplier Part Number 1: 952-M20-8890245RCT-ND
footprint HEADER_2PIN_2.54MM_R/A
pins: 1, 2

## HEADER_2x4PIN_2.54_1
designator J?, comment HEADER DUAL VERT 2.54MM
CONN HEADER VERT 4POS 2.54MM; Pitch (mm): 2.54; Positions: 8; Created By: John Ulm; Supplier 1: RS (Formerly Allied Electronics); Supplier Part Number 1: PH2-08-UA
footprint HEADER_2x4PIN_2.54mm
pins: 1, 2, 3, 4, 5, 6, 7, 8

## HEADER_2x5PIN_2.54MM
designator J?, comment HEADER DUAL VERT 2.54MM
CONN HEADER VERT 10POS 2.54MM; Made By: Robert Pafford; Supplier 1: Digi-Key; Supplier Part Number 1: 732-2672-ND
footprint HEADER_2X5PIN_2.54MM
pins: 1, 2, 3, 4, 5, 6, 7, 8, 9, 10

## HEADER_2x6PIN_2.54
designator J?, comment HEADER DUAL VERT 2.54MM
CONN HEADER VERT 6POS 2.54MM; Pitch (mm): 2.54; Positions: 12; Created By: John Ulm; Supplier 1: DigiKey; Supplier Part Number 1: 2057-PH2-12-UA-ND
footprint HEADER_2x6PIN_2.54mm
pins: 1, 2, 3, 4, 5, 6, 7, 8, 9, 10, 11, 12

## HEADER_2x8PIN_2.54_1
designator J?, comment HEADER DUAL VERT 2.54MM
CONN HEADER VERT 8POS 2.54MM; Pitch (mm): 2.54; Positions: 16; Created By: John Ulm; Supplier 1: DigiKey; Supplier Part Number 1: WM8144-ND
footprint HEADER_2x8PIN_2.54mm
pins: 1, 2, 3, 4, 5, 6, 7, 8, 9, 10, 11, 12, 13, 14, 15, 16

## HEADER_2x10PIN_2.54MM
designator J?, comment HEADER DUAL VERT 2.54MM
CONN HEADER VERT 20POS 2.54MM; Made By: Tyson Nguyen; Supplier 1: Digi-Key; Supplier Part Number 1: Z8747-ND
footprint HEADER_2x10PIN_2.54MM
pins: 1, 2, 3, 4, 5, 6, 7, 8, 9, 10, 11, 12, 13, 14, 15, 16, 17, 18, 19, 20

## HEADER_2x10PIN_2.54MM_RP2040_GPIO
designator J?, comment RP2040 GPIO Header
CONN HEADER VERT 20POS 2.54MM; Made By: Robert Pafford; Supplier 1: Digi-Key; Supplier Part Number 1: Z8747-ND
footprint HEADER_2x10PIN_2.54MM
footprint HEADER_MIRRORED_2x10PIN_2.54MM
pins: 1 3.3V (power), 2 3.3V (power), 3 GPIO14 (io), 4 GPIO15 (io), 5 GPIO16 (io), 6 GPIO17 (io), 7 GPIO18 (io), 8 GPIO19 (io), 9 GPIO20 (io), 10 GPIO21 (io), 11 GPIO22 (io), 12 GPIO23 (io), 13 GPIO24 (io), 14 GPIO25 (io), 15 GPIO26 (io), 16 GPIO27 (io), 17 GPIO28 (io), 18 GPIO29 (io), 19 GND (power), 20 GND (power)

## HEADER_4PIN_2.54MM
designator J?, comment HEADER VERT 2.54MM
CONN HEADER VERT 4POS 2.54MM; Made By: Robert Pafford; Supplier 1: Digi-Key; Supplier Part Number 1: S1012E-04-ND
footprint HEADER_4PIN_2.54MM
footprint HEADER_MIRRORED_4PIN_2.54MM
pins: 1, 2, 3, 4

## M3_STANDOFF_78614025360
designator MP?, comment M3 x 2.5mm  (value not drawn)
WE-SMSA SMT Spacer Studs Automotive, OD 6mm, ID 4.2mm, M3 x 2.5mm; Manufacturer Part Number: 78614025360; Manufacturer: Wurth Elektronik; Solder Cream Thickness Min: 150µm; Surface: Tin; Tightenning Torque Max: 0.5N*m; ComponentLink1Description: Website Link; ComponentLink1URL: https://www.we-online.com/redexpert/article/78614025360?ad; ComponentLink2Description: Datasheet Link; ComponentLink2URL: https://www.we-online.com/redexpert/spec/78614025360?ad; Category: Assembly; Match Code: WE-SMSA; Mount: Surface Mount; Operating Temperature Max: 150°C; Operating Temperature Min: -55°C; Packaging: Tape and Reel; Height: 2.5mm; Inner Diameter: 4.2mm; Outer Diameter: 6mm; Material: Steel; Thread: M3; Supplier 1: Digikey; Supplier Part Number 1: 732-78614025360CT-ND
footprint 78614025360 (M3 Thread Internal, Length 2.5mm)
pins: 1

## M.2 (BOTTOM)
designator *
Created By: Ethan Rosati; Reviewed By: *
footprint M.2 (bottom)
pins: 2, 4, 6, 8, 10, 12, 14, 16, 18, 20, 22, 32, 34, 36, 38, 40, 42, 44, 46, 48, 50, 52, 54, 56, 58, 60, 62, 64, 66, 68, 70, 72, 74

## M.2 (TOP)
designator *  (no BOM)
M.2 E-Key top fingers; Created By: Ethan Rosati; Reviewed By: *
footprint M.2 (top) (M.2 E-Key Fingers on the top side)
pins: 1, 3, 5, 7, 9, 11, 13, 15, 17, 19, 21, 23, 33, 35, 37, 39, 41, 43, 45, 47, 49, 51, 53, 55, 57, 59, 61, 63, 65, 67, 69, 71, 73, 75

## MKIICopro_ESC
designator J?
WR-FPC SMT ZIF Horizontal Top Contact, pitch 1mm, 10p; Manufacturer Part Number: 68611014122; Manufacturer: Wurth Elektronik; Contact Resistance: 20mOhm; Pin Number: 10; Working Voltage: 125VAC; Rated Current: 1A; ComponentLink1Description: Manufacturer; ComponentLink1URL: http://www.we-online.de; ComponentLink2Description: Datasheet; ComponentLink2URL: https://katalog.we-online.com/em/datasheet/68611014122.pdf; Packaging: Tape and Reel; Pitch: 1mm; Published Date: March 2021; Mounting Technology: SMT; Operating Temperature: -25 to +85degC; Length: 17mm; Type: Horizontal
footprint 68611014122 (ZIF Connectors, Horizontal, Top Contact, pitch 1mm, 10p)
pins: 1 GND, 2 PWM1, 3 PWM2, 4 PWM3, 5 PWM4, 6 PWM5, 7 PWM6, 8 PWM7, 9 PWM8, 10 Telemetry, MP1, MP2

## MkIICoproPB_FFC
designator J?
WR-FPC SMT ZIF Horizontal Top Contact, pitch 1mm, 12p; Manufacturer Part Number: 68611214122; Manufacturer: Wurth Elektronik; Contact Resistance: 20mOhm; Pin Number: 12; Working Voltage: 125VAC; Rated Current: 1A; ComponentLink1Description: Manufacturer; ComponentLink1URL: http://www.we-online.de; ComponentLink2Description: Datasheet; ComponentLink2URL: https://katalog.we-online.com/em/datasheet/68611214122.pdf; Packaging: Tape and Reel; Pitch: 1mm; Published Date: March 2021; Mounting Technology: SMT; Operating Temperature: -25 to +85degC; Length: 19mm; Type: Horizontal
footprint 68611214122 (ZIF Connectors, Horizontal, Top Contact, pitch 1mm, 12p)
pins: 1 GND, 2 5V, 3 Peltier, 4 MOBO Power, 5 Kill Switch, 6 Aux Switch, 7 Kill Robot, 8 Power Cycle, 9 Lighting 1, 10 Lighting 2, 11 SCL, 12 SDA, MP1, MP2

## MKllCopro_Act
designator J?
WR-FPC SMT ZIF Vertical Type A, pitch 1mm, 12p; Manufacturer Part Number: 686112183822; Manufacturer: Wurth Elektronik; Contact Resistance: 30mOhm; Pin Number: 12; Working Voltage: 125VAC; Rated Current: 1A; ComponentLink1Description: Manufacturer; ComponentLink1URL: http://www.we-online.de; ComponentLink2Description: Datasheet; ComponentLink2URL: https://katalog.we-online.com/em/datasheet/686112183822.pdf; Packaging: Tape and Reel; Pitch: 1mm; Published Date: March 2021; Mounting Technology: SMT; Operating Temperature: -25 to +85degC; Length: 18.8mm; Type: Vertical
footprint 686112183822 (ZIF Connectors, Vertical, Type A, pitch 1mm, 12p)
pins: 1 GND, 2 Camera PWM, 3 PWM Claw 1, 4 PWM Claw 2, 5 Marker Dropper 1, 6 Marker Dropper 2, 7 Arm, 8 Torp 1, 9 Torp 2, 10 Coil 1, 11 Coil 2, 12 Coil 3, MP1, MP2, MP3, MP4

## Net Tie
designator J*  (value not drawn)
Net Tie, for seperate but connected nets. / i.e. Analog and Digital Grounds
footprint Net Tie
pins: 1, 2
text: Net; Tie

## RB1-125BAG1A
designator J?, comment Ethernet Connector  (value not drawn)
CONN JACK 1PORT 100 BASE-T PCB
footprint WIZNET_RB1-125BAG1A
pins: L1, L2, L3, L4, R1 TD+ (in), R2 TD- (in), R3 CT (in), R4 (in), R5 (in), R6 (in), R7 RD+ (in), R8 RD- (in)
text: 1 TX+; 2 TX-; 3 RX+; 6 RX-; 75R; 4; 5; 7; 8

## RECEPTACLE_8PIN_2.54MM
designator J?, comment RCPT VERT 2.54MM
8 Position Receptacle Connector 0.100" (2.54mm) Through Hole Gold; Made By: Robert Pafford; Supplier 1: Mouser; Supplier Part Number 1: 571-5-534237-6
footprint RCPT_8PIN_2.54MM
pins: 1, 2, 3, 4, 5, 6, 7, 8

## RECEPTICLE_2x10PIN_2.54MM
designator J?, comment RCPT DUAL VERT 2.54MM
0.100" (2.54mm) 20 Position Header Connector Through Hole Gold; Vendor: Sullins; Configuration: Vertical; Current Per Pin: 3A; Number of Positions: 20; Manufacturer: Sullins; Supplier 1: Digi-Key; Supplier Part Number 1: S6106-ND; Pitch: 2.54mm; Color: Black; Created By: Dylan T; Series: PPPC102
footprint RCPT_2x10PIN_2.54MM
pins: 1, 2, 3, 4, 5, 6, 7, 8, 9, 10, 11, 12, 13, 14, 15, 16, 17, 18, 19, 20

## Redcube M4 Term 85A
designator J?  (value not drawn)
Current Rating: 85 A; Screw Size: M4; Created By: Nahtan Ayer
footprint Redcube M4 Term 85A
pins: 1

## SAMTEC-LS2-105-01-X-D-RA1
designator J?, comment 10pos 3.8A conn
10 Position Connector Self Mating, Non-Gendered, Hermaphroditic Through Hole, Right Angle Gold; MP: SAMTEC-LS2-105-01-X-D-RA1; Price: None; Value: *; Package: None; Availability: Unavailable; Supplier 1: Mouser; Supplier Part Number 1: 200-LS210501FDRA1
footprint SAMTEC-LS2-105-01-X-D-RA1
pins: 1, 2, 3, 4, 5, 6, 7, 8, 9, 10

## SAMTEC-LS2-105-01-X-D-RA2
designator J?, comment 10pos 3.8A conn
10 Position Connector Self Mating, Non-Gendered, Hermaphroditic Through Hole, Right Angle Gold; MP: SAMTEC-LS2-105-01-X-D-RA2; Package: None; Price: None; Value: *; Availability: Unavailable; Supplier 1: Mouser; Supplier Part Number 1: 200-LS210501FDRA2
footprint SAMTEC-LS2-105-01-X-D-RA2
pins: 1, 2, 3, 4, 5, 6, 7, 8, 9, 10

## Single Pad 12AWG wire
designator J?  (value not drawn)
DO NOT USE; Current Rating: Unknown; Created By: Flip B
footprint Single Pad (12AWG) (DO NOT USE)
pins: 1

## TC2030_SWD
designator J?, comment TagConnect SWD  (no BOM)
TagConnect TC2030 ARM SWD 6-pin
footprint TC2030-MCP
footprint TC2030-MCP-NL
pins: 1 SWDIO, 2 VCC, 3 SWCLK, 4 nRESET, 5 SWO, 6 GND

## TESTPOINT
designator TP?, comment PCB Test Point  (value not drawn)  (no BOM)
Made By: Robert Pafford
footprint TESTPOINT_1.2MM
pins: TP

## XT60PW-F
designator J?, comment XT60-F R/A
XT60 Socket DC Supply Connector Female (30-45 A); MP: XT60PW-F; MF: AMASS; Availability: Unavailable; SnapEDA_Link: https://www.snapeda.com/parts/XT60PW-F/AMASS/view-part/2890674/?ref=snap; Value: *; Price: None; Package: Package
footprint XT60PW_AMASS_F (XT60_AMASS_F)
pins: 1, 2, S1 SHIELD, S2 SHIELD

## XT60PW-M
designator J?, comment XT60-M R/A
XT60 60A Right Angle Male (30-45A MAX); MP: XT60PW-M; MF: AMASS; SnapEDA_Link: https://www.snapeda.com/parts/XT60PW-M%20/AMASS/view-part/3075559/?ref=snap; Availability: Unavailable; Price: None; Value: *; Package: Package Analog Devices
footprint XT60_PW_AMASS_M (XT60 60A RIGHT ANGLE MALE)
pins: 1, 2

## XT90PW-M
designator J?, comment XT90-M R/A
XT90 90A Right Angle Male
footprint AMASS_XT90PW-M
pins: N, P